# Altium schematic symbol library 613012243121.SchLib: 1 symbol
Pins are listed as number, name and electrical type; pins without a type are passive.

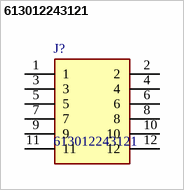
[diagram p0: symbol 613012243121]

## 613012243121
designator J?
WURTH ELEKTRONIK - 613012243121 - CONNECTOR, RCPT, 12POS, 2ROW, 2.54MM; Geometry.Height: 5.23mm; Mouser Part Number: 710-613012243121; Mouser Price/Stock: https://www.mouser.co.uk/ProductDetail/Wurth-Elektronik/613012243121?qs=iLbezkQI%252Bsgb444HYkTruQ%3D%3D; Manufacturer_Name: Wurth Elektronik; Manufacturer_Part_Number: 613012243121; Datasheet Link: *
footprint 613012243121
pins: 1, 2, 3, 4, 5, 6, 7, 8, 9, 10, 11, 12